# EAGLE library part PC104_WCONN (library DSDEagleLibrary)
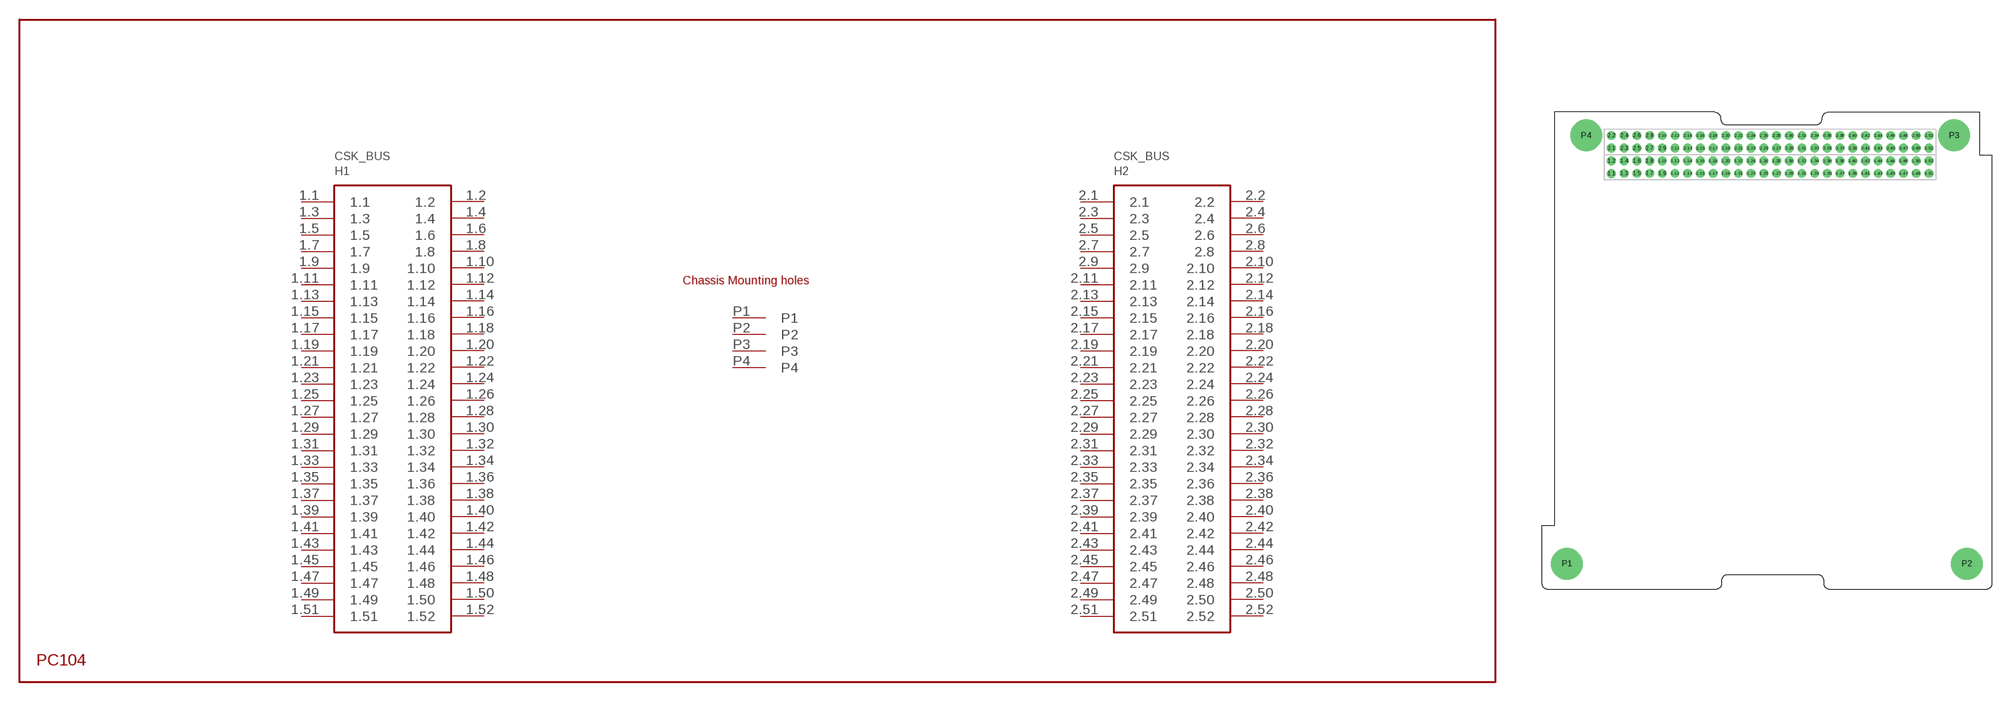
[diagram p28: symbol with the pads of PC104_WCONN; footprint PC104_WCONN]

Designator prefix H

## PC104_WCONN  [PC104_WCONN]
1.1  1.1
1.2  1.2
1.3  1.3
1.4  1.4
1.5  1.5
1.6  1.6
1.7  1.7
1.8  1.8
1.9  1.9
1.10  1.10
1.11  1.11
1.12  1.12
1.13  1.13
1.14  1.14
1.15  1.15
1.16  1.16
1.17  1.17
1.18  1.18
1.19  1.19
1.20  1.20
1.21  1.21
1.22  1.22
1.23  1.23
1.24  1.24
1.25  1.25
1.26  1.26
1.27  1.27
1.28  1.28
1.29  1.29
1.30  1.30
1.31  1.31
1.32  1.32
1.33  1.33
1.34  1.34
1.35  1.35
1.36  1.36
1.37  1.37
1.38  1.38
1.39  1.39
1.40  1.40
1.41  1.41
1.42  1.42
1.43  1.43
1.44  1.44
1.45  1.45
1.46  1.46
1.47  1.47
1.48  1.48
1.49  1.49
1.50  1.50
1.51  1.51
1.52  1.52
2.1  2.1
2.2  2.2
2.3  2.3
2.4  2.4
2.5  2.5
2.6  2.6
2.7  2.7
2.8  2.8
2.9  2.9
2.10  2.10
2.11  2.11
2.12  2.12
2.13  2.13
2.14  2.14
2.15  2.15
2.16  2.16
2.17  2.17
2.18  2.18
2.19  2.19
2.20  2.20
2.21  2.21
2.22  2.22
2.23  2.23
2.24  2.24
2.25  2.25
2.26  2.26
2.27  2.27
2.28  2.28
2.29  2.29
2.30  2.30
2.31  2.31
2.32  2.32
2.33  2.33
2.34  2.34
2.35  2.35
2.36  2.36
2.37  2.37
2.38  2.38
2.39  2.39
2.40  2.40
2.41  2.41
2.42  2.42
2.43  2.43
2.44  2.44
2.45  2.45
2.46  2.46
2.47  2.47
2.48  2.48
2.49  2.49
2.50  2.50
2.51  2.51
2.52  2.52
P1  P1
P2  P2
P3  P3
P4  P4

## Footprint PC104_WCONN (pad centres in mm)
drill 1.067 pad 1.778: 1.1 13.97,83.185; 1.2 13.97,85.725; 1.3 16.51,83.223; 1.4 16.51,85.725; 1.6 19.05,85.725; 1.7 21.59,83.223; 1.8 21.59,85.725; 1.9 24.13,83.223; 1.10 24.13,85.725; 1.11 26.67,83.223; 1.12 26.67,85.725; 1.13 29.21,83.223; 1.14 29.21,85.725; 1.15 31.75,83.223; 1.16 31.75,85.725; 1.17 34.29,83.223; 1.18 34.29,85.725; 1.19 36.83,83.223; 1.20 36.83,85.725; 1.21 39.37,83.223; 1.22 39.37,85.725; 1.23 41.91,83.223; 1.24 41.91,85.725; 1.25 44.45,83.223; 1.26 44.45,85.725; 1.27 46.99,83.223; 1.28 46.99,85.725; 1.29 49.53,83.223; 1.30 49.53,85.725; 1.31 52.07,83.223; 1.32 52.07,85.725; 1.33 54.61,83.223; 1.34 54.61,85.725; 1.35 57.15,83.223; 1.36 57.15,85.725; 1.37 59.69,83.223; 1.38 59.69,85.725; 1.39 62.23,83.223; 1.40 62.23,85.725; 1.41 64.77,83.223; 1.42 64.77,85.725; 1.43 67.31,83.223; 1.44 67.31,85.725; 1.45 69.85,83.223; 1.46 69.85,85.725; 1.47 72.39,83.223; 1.48 72.39,85.725; 1.49 74.93,83.223; 1.50 74.93,85.725; 1.51 77.47,83.223; 1.52 77.47,85.725; 2.1 13.97,88.265; 2.2 13.97,90.805; 2.3 16.51,88.265; 2.4 16.51,90.805; 2.5 19.05,88.265; 2.6 19.05,90.805; 2.7 21.59,88.265; 2.8 21.59,90.805; 2.9 24.13,88.265; 2.10 24.13,90.805; 2.11 26.67,88.265; 2.12 26.67,90.805; 2.13 29.21,88.265; 2.14 29.21,90.805; 2.15 31.75,88.265; 2.16 31.75,90.805; 2.17 34.29,88.265; 2.18 34.29,90.805; 2.19 36.83,88.265; 2.20 36.83,90.805; 2.21 39.37,88.265; 2.22 39.37,90.805; 2.23 41.91,88.265; 2.24 41.91,90.805; 2.25 44.45,88.265; 2.26 44.45,90.805; 2.27 46.99,88.265; 2.28 46.99,90.805; 2.29 49.53,88.265; 2.30 49.53,90.805; 2.31 52.07,88.265; 2.32 52.07,90.805; 2.33 54.61,88.265; 2.34 54.61,90.805; 2.35 57.15,88.265; 2.36 57.15,90.805; 2.37 59.69,88.265; 2.38 59.69,90.805; 2.39 62.23,88.265; 2.40 62.23,90.805; 2.41 64.77,88.265; 2.42 64.77,90.805; 2.43 67.31,88.265; 2.44 67.31,90.805; 2.45 69.85,88.265; 2.46 69.85,90.805; 2.47 72.39,88.265; 2.48 72.39,90.805; 2.49 74.93,88.265; 2.50 74.93,90.805; 2.51 77.47,88.265; 2.52 77.47,90.805
drill 1.016 pad 1.778: 1.5 19.05,83.223
drill 3.175 pad 6.35: P1 5.08,5.08; P2 85.09,5.08; P3 82.55,90.805; P4 8.89,90.805